# EAGLE library part ESP-201 (library PLUGAR_pads)
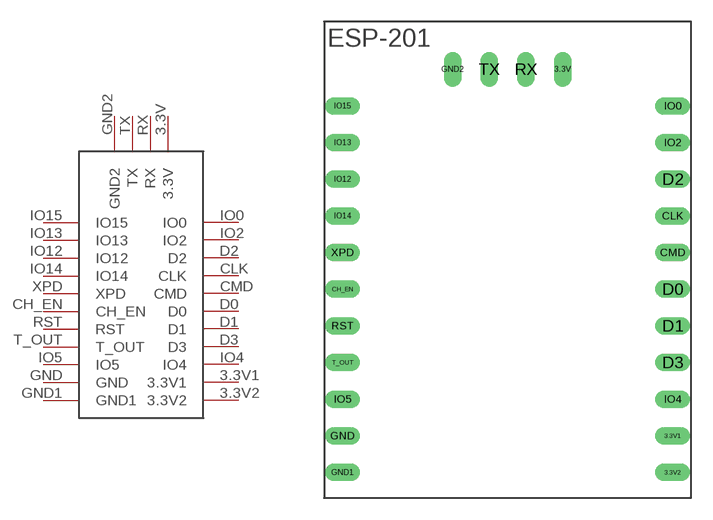
[diagram p1: symbol with the pads of ESP-201; footprint ESP-201]

Designator prefix -

## ESP-201  [ESP-201]
3.3V  3.3V
3.3V1  3.3V1
3.3V2  3.3V2
CH_EN  CH_EN
CLK  CLK
CMD  CMD
D0  D0
D1  D1
D2  D2
D3  D3
GND  GND
GND1  GND1
GND2  GND2
IO0  IO0
IO2  IO2
IO4  IO4
IO5  IO5
IO12  IO12
IO13  IO13
IO14  IO14
IO15  IO15
RST  RST
RX  RX
T_OUT  T_OUT
TX  TX
XPD  XPD

## Footprint ESP-201 (pad centres in mm)
ESP-201 Package
drill 0.7 pad 0.813 long: 3.3V 3.81,12.7; 3.3V1 11.43,-12.7; 3.3V2 11.43,-15.24; CH_EN -11.43,-2.54; CLK 11.43,2.54; CMD 11.43,0; D0 11.43,-2.54; D1 11.43,-5.08; D2 11.43,5.08; D3 11.43,-7.62; GND -11.43,-12.7; GND1 -11.43,-15.24; GND2 -3.81,12.7; IO0 11.43,10.16; IO2 11.43,7.62; IO4 11.43,-10.16; IO5 -11.43,-10.16; IO12 -11.43,5.08; IO13 -11.43,7.62; IO14 -11.43,2.54; IO15 -11.43,10.16; RST -11.43,-5.08; RX 1.27,12.7; T_OUT -11.43,-7.62; TX -1.27,12.7; XPD -11.43,0